# EAGLE library part M25PX16* (library Parts)
NOR Serial Flash Embedded Memory
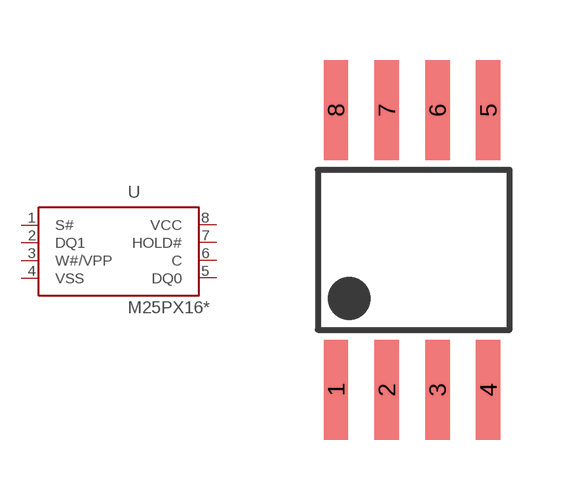
[diagram p12: symbol with the pads of SOP8-1.27; footprint SOP8-1.27]

Designator prefix U

## M25PX16  [SOP8-1.27]
1  S#
2  DQ1
3  W#/VPP
4  VSS  pas
5  DQ0
6  C
7  HOLD#
8  VCC  pas

## Footprint SOP8-1.27 (pad centres in mm)
smd 0.61 x 2.5: 1 -1.945,-3.5; 2 -0.675,-3.5; 3 0.595,-3.5; 4 1.865,-3.5; 5 1.865,3.5; 6 0.595,3.5; 7 -0.675,3.5; 8 -1.945,3.5